# Altium footprint library Diod.PcbLib: 392 footprints (part 20 of 25)
Each footprint in its own frame and in the unit in brackets; x right, y up, seen from the top. Pads: shape width x height; smd on the part's side, far side on the other; paste and mask are expansions set on the pad; w line width, h text height; cw(c..) or ccw(c..) is an arc to the next point about the centre after c.
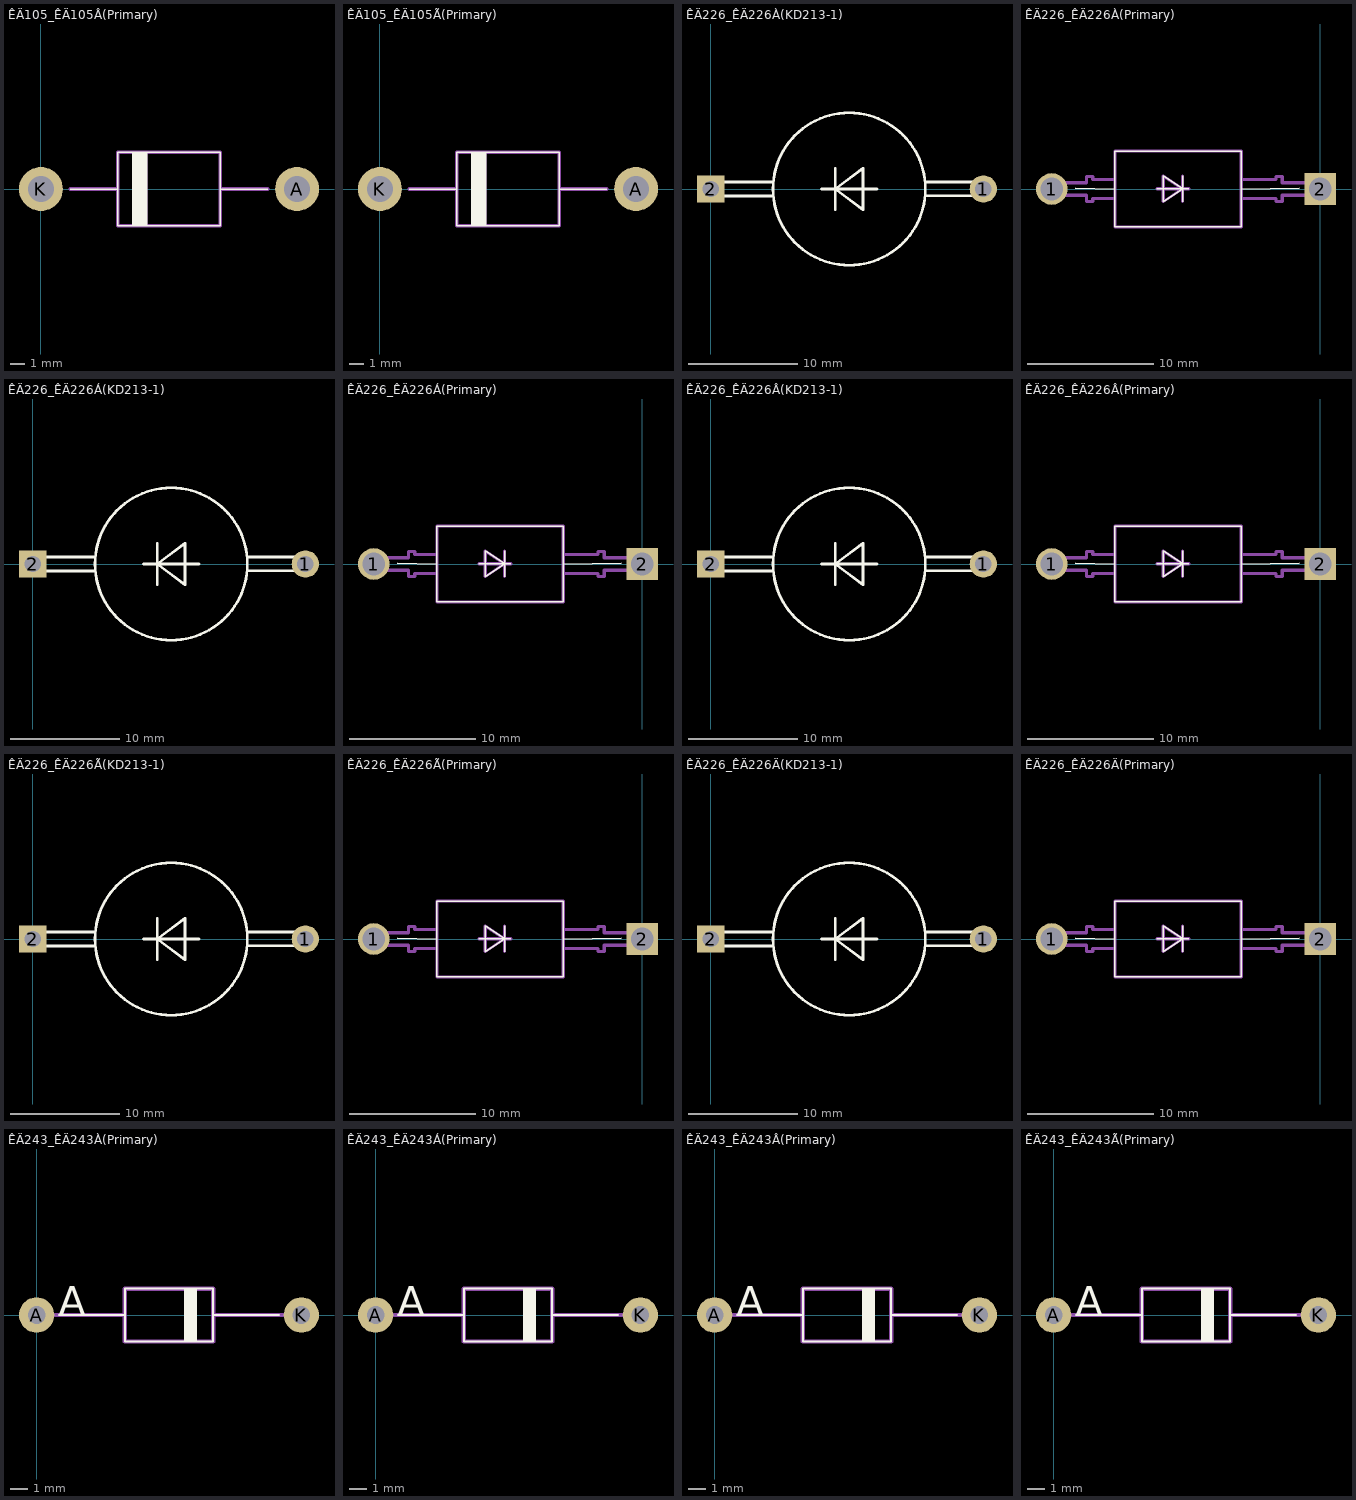
[diagram p19: the footprints below, top view; thin cyan lines are the x and y axes]

## ÊÄ105_ÊÄ105Â(Primary) [mm]
pads (2):
  round 3 hole 1.8: A(17.5,0) K(0,0)
Top Overlay:
  region: 6.25,-2.5 7.25,-2.5 7.25,2.5 6.25,2.5
  lines w0.1: 2,0 5.25,0 ; 12.25,0 15.5,0 ; 5.25,-2.5 12.25,-2.5 12.25,2.5 5.25,2.5 5.25,-2.5
Mechanical 1:
  region: 6.25,-2.5 7.25,-2.5 7.25,2.5 6.25,2.5
  lines w0.25: 2,0 5.25,0 ; 12.25,0 15.5,0 ; 5.25,-2.5 12.25,-2.5 12.25,2.5 5.25,2.5 5.25,-2.5

## ÊÄ105_ÊÄ105Ã(Primary) [mm]
pads (2):
  round 3 hole 1.8: A(17.5,0) K(0,0)
Top Overlay:
  region: 6.25,-2.5 7.25,-2.5 7.25,2.5 6.25,2.5
  lines w0.1: 2,0 5.25,0 ; 12.25,0 15.5,0 ; 5.25,-2.5 12.25,-2.5 12.25,2.5 5.25,2.5 5.25,-2.5
Mechanical 1:
  region: 6.25,-2.5 7.25,-2.5 7.25,2.5 6.25,2.5
  lines w0.25: 2,0 5.25,0 ; 12.25,0 15.5,0 ; 5.25,-2.5 12.25,-2.5 12.25,2.5 5.25,2.5 5.25,-2.5

## ÊÄ226_ÊÄ226À(KD213-1) [mm]
pads (2):
  round 2.5 hole 1.5: 1(25,0)
  rect 2.5x2.5 hole 1.5: 2(0,0)
Top Overlay:
  circle w0.25: c12.7,0 r6.985
  lines w0.25: 5.715,-0.635 0,-0.635 0,0 0,0.635 5.715,0.635 ; 10.16,0 15.24,0 ; 11.43,-1.905 11.43,1.905 ; 19.685,-0.635 24.98,-0.63 ; 19.685,0.635 24.99,0.64 ; 25,-0.635 25,0.635 ; 11.43,0 13.97,-1.905 13.97,1.905 11.43,0

## ÊÄ226_ÊÄ226À(Primary) [mm]
pads (2):
  round 2.5 hole 1.8: 1(-21.25,0)
  rect 2.5x2.5 hole 1.8: 2(0,0)
Top Overlay:
  lines w0.1: -19.41,0.04 -16.25,0 ; -12.934,0.016 -10.394,0.016 ; -10.902,-1 -10.902,1.032 ; -6.25,0 -1.66,0.04 ; -16.25,-3 -6.25,-3 -6.25,3 -16.25,3 -16.25,-3 ; -12.426,-1 -10.902,0.016 -12.426,1.032 -12.426,-1
Mechanical 1:
  lines w0.25: -12.934,0.016 -10.394,0.016 ; -12.934,0.016 -10.394,0.016 ; -12.934,0.016 -10.394,0.016 ; -12.426,-1 -10.902,0.016 ; -12.426,-1 -10.902,0.016 ; -12.426,-1 -10.902,0.016 ; -12.426,-1 -12.426,1.032 ; -12.426,-1 -12.426,1.032 ; -12.426,-1 -12.426,1.032 ; -12.426,1.032 -10.902,0.016 ; -12.426,1.032 -10.902,0.016 ; -12.426,1.032 -10.902,0.016 ; -10.902,-1 -10.902,1.032 ; -10.902,-1 -10.902,1.032 ; -10.902,-1 -10.902,1.032
  lines w0.254: -16.5,-0.75 -16.25,-0.75 -18,-0.75 -18,-1 -18.5,-1 -18.5,-0.5 -21.25,-0.5 -21.25,0.5 -18.5,0.5 -18.5,1 -18,1 -18,0.75 -16.25,0.75 ; -6.25,-0.75 -3.5,-0.75 -3.5,-1 -3,-1 -3,-0.5 0,-0.5 0,0.5 -3,0.5 -3,1 -3.25,1 -3.5,1 -3.5,0.75 -6,0.75 -6.25,0.75 ; -16.25,-3 -6.25,-3 -6.25,3 -16.25,3 -16.25,0 -16.25,-3

## ÊÄ226_ÊÄ226Á(KD213-1) [mm]
pads (2):
  round 2.5 hole 1.5: 1(25,0)
  rect 2.5x2.5 hole 1.5: 2(0,0)
Top Overlay:
  circle w0.25: c12.7,0 r6.985
  lines w0.25: 5.715,-0.635 0,-0.635 0,0 0,0.635 5.715,0.635 ; 10.16,0 15.24,0 ; 11.43,-1.905 11.43,1.905 ; 19.685,-0.635 24.98,-0.63 ; 19.685,0.635 24.99,0.64 ; 25,-0.635 25,0.635 ; 11.43,0 13.97,-1.905 13.97,1.905 11.43,0

## ÊÄ226_ÊÄ226Á(Primary) [mm]
pads (2):
  round 2.5 hole 1.8: 1(-21.25,0)
  rect 2.5x2.5 hole 1.8: 2(0,0)
Top Overlay:
  lines w0.1: -19.41,0.04 -16.25,0 ; -12.934,0.016 -10.394,0.016 ; -10.902,-1 -10.902,1.032 ; -6.25,0 -1.66,0.04 ; -16.25,-3 -6.25,-3 -6.25,3 -16.25,3 -16.25,-3 ; -12.426,-1 -10.902,0.016 -12.426,1.032 -12.426,-1
Mechanical 1:
  lines w0.25: -12.934,0.016 -10.394,0.016 ; -12.934,0.016 -10.394,0.016 ; -12.934,0.016 -10.394,0.016 ; -12.426,-1 -10.902,0.016 ; -12.426,-1 -10.902,0.016 ; -12.426,-1 -10.902,0.016 ; -12.426,-1 -12.426,1.032 ; -12.426,-1 -12.426,1.032 ; -12.426,-1 -12.426,1.032 ; -12.426,1.032 -10.902,0.016 ; -12.426,1.032 -10.902,0.016 ; -12.426,1.032 -10.902,0.016 ; -10.902,-1 -10.902,1.032 ; -10.902,-1 -10.902,1.032 ; -10.902,-1 -10.902,1.032
  lines w0.254: -16.5,-0.75 -16.25,-0.75 -18,-0.75 -18,-1 -18.5,-1 -18.5,-0.5 -21.25,-0.5 -21.25,0.5 -18.5,0.5 -18.5,1 -18,1 -18,0.75 -16.25,0.75 ; -6.25,-0.75 -3.5,-0.75 -3.5,-1 -3,-1 -3,-0.5 0,-0.5 0,0.5 -3,0.5 -3,1 -3.25,1 -3.5,1 -3.5,0.75 -6,0.75 -6.25,0.75 ; -16.25,-3 -6.25,-3 -6.25,3 -16.25,3 -16.25,0 -16.25,-3

## ÊÄ226_ÊÄ226Â(KD213-1) [mm]
pads (2):
  round 2.5 hole 1.5: 1(25,0)
  rect 2.5x2.5 hole 1.5: 2(0,0)
Top Overlay:
  circle w0.25: c12.7,0 r6.985
  lines w0.25: 5.715,-0.635 0,-0.635 0,0 0,0.635 5.715,0.635 ; 10.16,0 15.24,0 ; 11.43,-1.905 11.43,1.905 ; 19.685,-0.635 24.98,-0.63 ; 19.685,0.635 24.99,0.64 ; 25,-0.635 25,0.635 ; 11.43,0 13.97,-1.905 13.97,1.905 11.43,0

## ÊÄ226_ÊÄ226Â(Primary) [mm]
pads (2):
  round 2.5 hole 1.8: 1(-21.25,0)
  rect 2.5x2.5 hole 1.8: 2(0,0)
Top Overlay:
  lines w0.1: -19.41,0.04 -16.25,0 ; -12.934,0.016 -10.394,0.016 ; -10.902,-1 -10.902,1.032 ; -6.25,0 -1.66,0.04 ; -16.25,-3 -6.25,-3 -6.25,3 -16.25,3 -16.25,-3 ; -12.426,-1 -10.902,0.016 -12.426,1.032 -12.426,-1
Mechanical 1:
  lines w0.25: -12.934,0.016 -10.394,0.016 ; -12.934,0.016 -10.394,0.016 ; -12.934,0.016 -10.394,0.016 ; -12.426,-1 -10.902,0.016 ; -12.426,-1 -10.902,0.016 ; -12.426,-1 -10.902,0.016 ; -12.426,-1 -12.426,1.032 ; -12.426,-1 -12.426,1.032 ; -12.426,-1 -12.426,1.032 ; -12.426,1.032 -10.902,0.016 ; -12.426,1.032 -10.902,0.016 ; -12.426,1.032 -10.902,0.016 ; -10.902,-1 -10.902,1.032 ; -10.902,-1 -10.902,1.032 ; -10.902,-1 -10.902,1.032
  lines w0.254: -16.5,-0.75 -16.25,-0.75 -18,-0.75 -18,-1 -18.5,-1 -18.5,-0.5 -21.25,-0.5 -21.25,0.5 -18.5,0.5 -18.5,1 -18,1 -18,0.75 -16.25,0.75 ; -6.25,-0.75 -3.5,-0.75 -3.5,-1 -3,-1 -3,-0.5 0,-0.5 0,0.5 -3,0.5 -3,1 -3.25,1 -3.5,1 -3.5,0.75 -6,0.75 -6.25,0.75 ; -16.25,-3 -6.25,-3 -6.25,3 -16.25,3 -16.25,0 -16.25,-3

## ÊÄ226_ÊÄ226Ã(KD213-1) [mm]
pads (2):
  round 2.5 hole 1.5: 1(25,0)
  rect 2.5x2.5 hole 1.5: 2(0,0)
Top Overlay:
  circle w0.25: c12.7,0 r6.985
  lines w0.25: 5.715,-0.635 0,-0.635 0,0 0,0.635 5.715,0.635 ; 10.16,0 15.24,0 ; 11.43,-1.905 11.43,1.905 ; 19.685,-0.635 24.98,-0.63 ; 19.685,0.635 24.99,0.64 ; 25,-0.635 25,0.635 ; 11.43,0 13.97,-1.905 13.97,1.905 11.43,0

## ÊÄ226_ÊÄ226Ã(Primary) [mm]
pads (2):
  round 2.5 hole 1.8: 1(-21.25,0)
  rect 2.5x2.5 hole 1.8: 2(0,0)
Top Overlay:
  lines w0.1: -19.41,0.04 -16.25,0 ; -12.934,0.016 -10.394,0.016 ; -10.902,-1 -10.902,1.032 ; -6.25,0 -1.66,0.04 ; -16.25,-3 -6.25,-3 -6.25,3 -16.25,3 -16.25,-3 ; -12.426,-1 -10.902,0.016 -12.426,1.032 -12.426,-1
Mechanical 1:
  lines w0.25: -12.934,0.016 -10.394,0.016 ; -12.934,0.016 -10.394,0.016 ; -12.934,0.016 -10.394,0.016 ; -12.426,-1 -10.902,0.016 ; -12.426,-1 -10.902,0.016 ; -12.426,-1 -10.902,0.016 ; -12.426,-1 -12.426,1.032 ; -12.426,-1 -12.426,1.032 ; -12.426,-1 -12.426,1.032 ; -12.426,1.032 -10.902,0.016 ; -12.426,1.032 -10.902,0.016 ; -12.426,1.032 -10.902,0.016 ; -10.902,-1 -10.902,1.032 ; -10.902,-1 -10.902,1.032 ; -10.902,-1 -10.902,1.032
  lines w0.254: -16.5,-0.75 -16.25,-0.75 -18,-0.75 -18,-1 -18.5,-1 -18.5,-0.5 -21.25,-0.5 -21.25,0.5 -18.5,0.5 -18.5,1 -18,1 -18,0.75 -16.25,0.75 ; -6.25,-0.75 -3.5,-0.75 -3.5,-1 -3,-1 -3,-0.5 0,-0.5 0,0.5 -3,0.5 -3,1 -3.25,1 -3.5,1 -3.5,0.75 -6,0.75 -6.25,0.75 ; -16.25,-3 -6.25,-3 -6.25,3 -16.25,3 -16.25,0 -16.25,-3

## ÊÄ226_ÊÄ226Ä(KD213-1) [mm]
pads (2):
  round 2.5 hole 1.5: 1(25,0)
  rect 2.5x2.5 hole 1.5: 2(0,0)
Top Overlay:
  circle w0.25: c12.7,0 r6.985
  lines w0.25: 5.715,-0.635 0,-0.635 0,0 0,0.635 5.715,0.635 ; 10.16,0 15.24,0 ; 11.43,-1.905 11.43,1.905 ; 19.685,-0.635 24.98,-0.63 ; 19.685,0.635 24.99,0.64 ; 25,-0.635 25,0.635 ; 11.43,0 13.97,-1.905 13.97,1.905 11.43,0

## ÊÄ226_ÊÄ226Ä(Primary) [mm]
pads (2):
  round 2.5 hole 1.8: 1(-21.25,0)
  rect 2.5x2.5 hole 1.8: 2(0,0)
Top Overlay:
  lines w0.1: -19.41,0.04 -16.25,0 ; -12.934,0.016 -10.394,0.016 ; -10.902,-1 -10.902,1.032 ; -6.25,0 -1.66,0.04 ; -16.25,-3 -6.25,-3 -6.25,3 -16.25,3 -16.25,-3 ; -12.426,-1 -10.902,0.016 -12.426,1.032 -12.426,-1
Mechanical 1:
  lines w0.25: -12.934,0.016 -10.394,0.016 ; -12.934,0.016 -10.394,0.016 ; -12.934,0.016 -10.394,0.016 ; -12.426,-1 -10.902,0.016 ; -12.426,-1 -10.902,0.016 ; -12.426,-1 -10.902,0.016 ; -12.426,-1 -12.426,1.032 ; -12.426,-1 -12.426,1.032 ; -12.426,-1 -12.426,1.032 ; -12.426,1.032 -10.902,0.016 ; -12.426,1.032 -10.902,0.016 ; -12.426,1.032 -10.902,0.016 ; -10.902,-1 -10.902,1.032 ; -10.902,-1 -10.902,1.032 ; -10.902,-1 -10.902,1.032
  lines w0.254: -16.5,-0.75 -16.25,-0.75 -18,-0.75 -18,-1 -18.5,-1 -18.5,-0.5 -21.25,-0.5 -21.25,0.5 -18.5,0.5 -18.5,1 -18,1 -18,0.75 -16.25,0.75 ; -6.25,-0.75 -3.5,-0.75 -3.5,-1 -3,-1 -3,-0.5 0,-0.5 0,0.5 -3,0.5 -3,1 -3.25,1 -3.5,1 -3.5,0.75 -6,0.75 -6.25,0.75 ; -16.25,-3 -6.25,-3 -6.25,3 -16.25,3 -16.25,0 -16.25,-3

## ÊÄ243_ÊÄ243À(Primary) [mm]
pads (2):
  round 2 hole 1: A(0,0) K(15,0)
Top Overlay:
  region: 8.37,-1.51 9.07,-1.51 9.07,1.49 8.37,1.49
  lines w0.1: 1.25,0 5,0 ; 10,0 13.75,0 ; 5,-1.5 10,-1.5 10,1.5 5,1.5 5,-1.5
  text "A" at 1.25,0 h1.63
Mechanical 1:
  region: 8.37,-1.51 9.07,-1.51 9.07,1.49 8.37,1.49
  lines w0.25: 0,0 5,0 ; 10,0 15,0 ; 5,-1.5 10,-1.5 10,1.5 5,1.5 5,-1.5
  text "A" at 1.25,0 h1.63

## ÊÄ243_ÊÄ243Á(Primary) [mm]
pads (2):
  round 2 hole 1: A(0,0) K(15,0)
Top Overlay:
  region: 8.37,-1.51 9.07,-1.51 9.07,1.49 8.37,1.49
  lines w0.1: 1.25,0 5,0 ; 10,0 13.75,0 ; 5,-1.5 10,-1.5 10,1.5 5,1.5 5,-1.5
  text "A" at 1.25,0 h1.63
Mechanical 1:
  region: 8.37,-1.51 9.07,-1.51 9.07,1.49 8.37,1.49
  lines w0.25: 0,0 5,0 ; 10,0 15,0 ; 5,-1.5 10,-1.5 10,1.5 5,1.5 5,-1.5
  text "A" at 1.25,0 h1.63

## ÊÄ243_ÊÄ243Â(Primary) [mm]
pads (2):
  round 2 hole 1: A(0,0) K(15,0)
Top Overlay:
  region: 8.37,-1.51 9.07,-1.51 9.07,1.49 8.37,1.49
  lines w0.1: 1.25,0 5,0 ; 10,0 13.75,0 ; 5,-1.5 10,-1.5 10,1.5 5,1.5 5,-1.5
  text "A" at 1.25,0 h1.63
Mechanical 1:
  region: 8.37,-1.51 9.07,-1.51 9.07,1.49 8.37,1.49
  lines w0.25: 0,0 5,0 ; 10,0 15,0 ; 5,-1.5 10,-1.5 10,1.5 5,1.5 5,-1.5
  text "A" at 1.25,0 h1.63

## ÊÄ243_ÊÄ243Ã(Primary) [mm]
pads (2):
  round 2 hole 1: A(0,0) K(15,0)
Top Overlay:
  region: 8.37,-1.51 9.07,-1.51 9.07,1.49 8.37,1.49
  lines w0.1: 1.25,0 5,0 ; 10,0 13.75,0 ; 5,-1.5 10,-1.5 10,1.5 5,1.5 5,-1.5
  text "A" at 1.25,0 h1.63
Mechanical 1:
  region: 8.37,-1.51 9.07,-1.51 9.07,1.49 8.37,1.49
  lines w0.25: 0,0 5,0 ; 10,0 15,0 ; 5,-1.5 10,-1.5 10,1.5 5,1.5 5,-1.5
  text "A" at 1.25,0 h1.63